# EAGLE library part SP485 (library serial_interfaces)
Half-duplex RS-485/RS-422 transceiver with enhanced ESD performance.
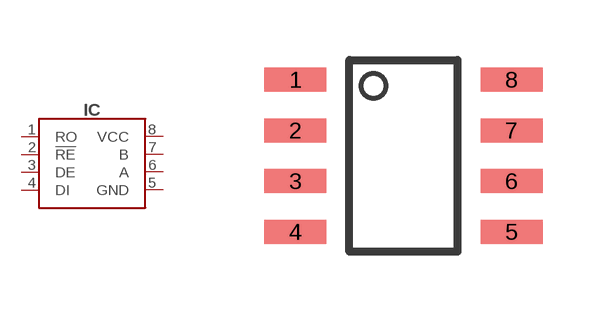
[diagram p16: symbol with the pads of SOIC8; footprint SOIC8]

Designator prefix IC

## SP485 (LCSC#: C6855; MANF: Exar; MANF#: SP485EEN-L/TR)  [SOIC8]
1  RO  out
2  !RE  in
3  DE  in
4  DI  in
5  GND  sup
6  A
7  B
8  VCC  sup

## Footprint SOIC8 (pad centres in mm)
https://www.ti.com/lit/ds/snvsaq5a/snvsaq5a.pdf?ts=1602424164509
smd 1.55 x 0.6: 1 -2.7,1.905; 2 -2.7,0.635; 3 -2.7,-0.635; 4 -2.7,-1.905; 5 2.7,-1.905; 6 2.7,-0.635; 7 2.7,0.635; 8 2.7,1.905